# Altium schematic symbol library BZD27C Family.SchLib: 1 symbol
Pins are listed as number, name and electrical type; pins without a type are passive.

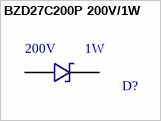
[diagram p0: symbol BZD27C200P 200V/1W]

## BZD27C200P 200V/1W
designator D?, comment Power: 1W  Voltage: 200V  (hidden comment: BZD27C200P 200V/1W - Sub SMA)
Zener Diode 200V 1W ±5% Surface Mount Sub SMA; Manufacturer 1: Taiwan Semiconductor Corporation; Manufacturer 1 PN: BZD27C200P RVG; ComponentLink1Description: Datasheet; ComponentLink1URL: https://www.taiwansemi.com/products/datasheet/BZD27C%20SERIES_AA1806.pdf; Digikey PN: BZD27C200PRVGCT-ND; Notes: *
footprint BZD27C200P 200V/1W - Sub SMA (Zener Diode 200V 1W ±5% Surface Mount Sub SMA)
pins: A, K